# Altium schematic symbol library TSW-108-05-G-D.SchLib: 1 symbol
Pins are listed as number, name and electrical type; pins without a type are passive.

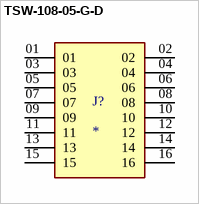
[diagram p0: symbol TSW-108-05-G-D]

## TSW-108-05-G-D
designator J?
MP: TSW-108-05-G-D; MF: {'manufacturer': u'Samtec'}; Price: None; Package: None; Value: *; Availability: Unavailable
footprint SAMTEC_TSW-108-05-G-D
pins: 01, 02, 03, 04, 05, 06, 07, 08, 09, 10, 11, 12, 13, 14, 15, 16